# Altium footprint library Inductor_THT.PcbLib: 269 footprints (part 4 of 17)
Each footprint in its own frame and in the unit in brackets; x right, y up, seen from the top. Pads: shape width x height; smd on the part's side, far side on the other; paste and mask are expansions set on the pad; w line width, h text height; cw(c..) or ccw(c..) is an arc to the next point about the centre after c.
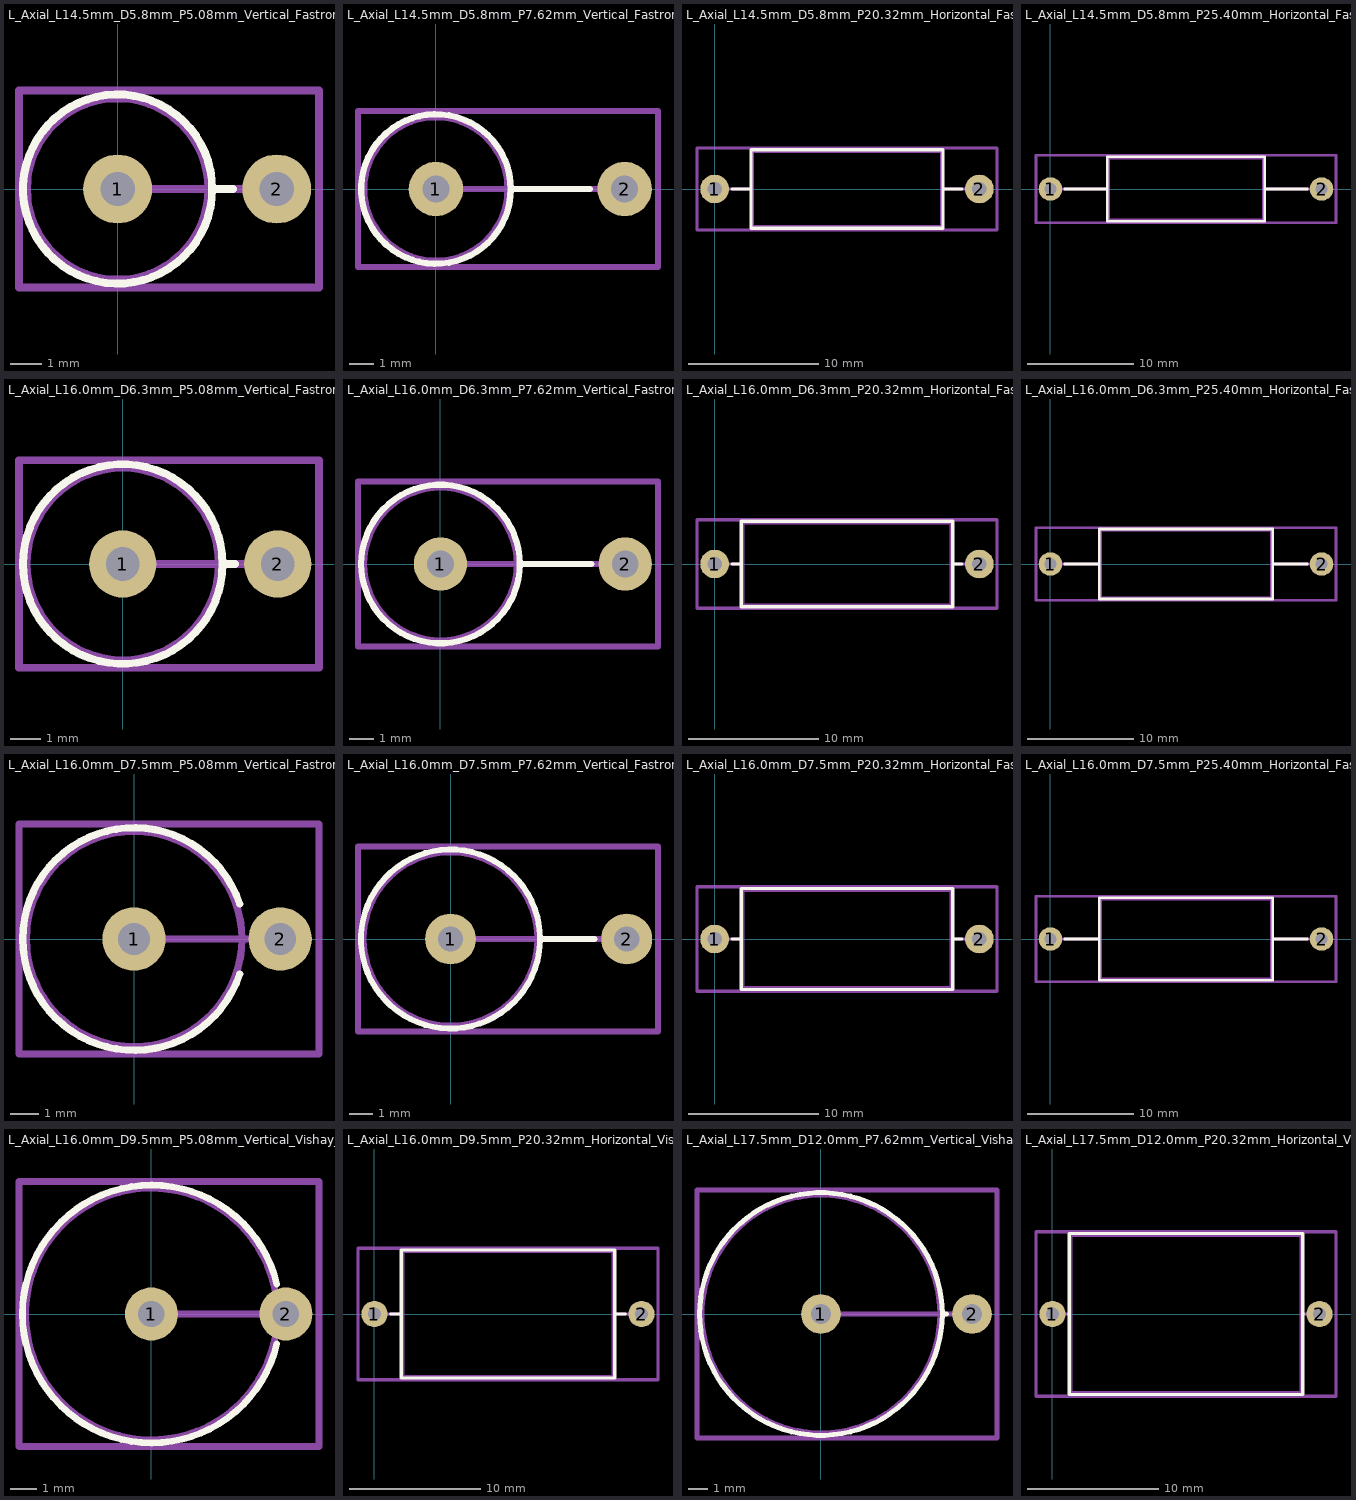
[diagram p3: the footprints below, top view; thin cyan lines are the x and y axes]

## L_Axial_L14.5mm_D5.8mm_P5.08mm_Vertical_Fastron_HBCC [mm]
pads (2):
  round 2.2 hole 1.1: 1(0,0) 2(5.08,0)
F.SilkS:
  circle w0.254: c0,0 r3.02
  lines w0.254: 3.02,0 3.68,0
Top Assembly:
  circle w0.254: c0,0 r2.9
  lines w0.254: 0,0 5.08,0
  text "'.Designator'" at -4.047,0.76 h1
Top Courtyard:
  lines w0.254: -3.15,-3.15 6.43,-3.15 6.43,3.15 -3.15,3.15 -3.15,-3.15
Top Designator:
  text ".Designator" at -6.437,-0.508 h1.52
3D body "L_Axial_L14.5mm_D5.8mm_P5.08mm_Vertical_Fastron_HBCC.step": height 17.4, standoff -3, extent -2.9,-2.897 5.477,2.897

## L_Axial_L14.5mm_D5.8mm_P7.62mm_Vertical_Fastron_HBCC [mm]
pads (2):
  round 2.2 hole 1.1: 1(0,0) 2(7.62,0)
F.SilkS:
  circle w0.254: c0,0 r3.02
  lines w0.254: 3.02,0 6.22,0
Top Assembly:
  circle w0.254: c0,0 r2.9
  lines w0.254: 0,0 7.62,0
  text "'.Designator'" at -4.047,0.76 h1
Top Courtyard:
  lines w0.254: -3.15,-3.15 8.97,-3.15 8.97,3.15 -3.15,3.15 -3.15,-3.15
Top Designator:
  text ".Designator" at -5.167,-0.508 h1.52
3D body "L_Axial_L14.5mm_D5.8mm_P7.62mm_Vertical_Fastron_HBCC.step": height 17.4, standoff -3, extent -2.9,-2.897 8.017,2.897

## L_Axial_L14.5mm_D5.8mm_P20.32mm_Horizontal_Fastron_HBCC [mm]
pads (2):
  round 2.2 hole 1.1: 1(0,0) 2(20.32,0)
F.SilkS:
  lines w0.254: 1.34,0 2.79,0 ; 17.53,0 18.98,0 ; 2.79,-3.02 17.53,-3.02 17.53,3.02 2.79,3.02 2.79,-3.02
Top Assembly:
  lines w0.254: 0,0 2.91,0 ; 17.41,0 20.32,0 ; 2.91,-2.9 17.41,-2.9 17.41,2.9 2.91,2.9 2.91,-2.9
  text "'.Designator'" at 6.113,-0.84 h1
Top Courtyard:
  lines w0.254: -1.35,-3.15 21.67,-3.15 21.67,3.15 -1.35,3.15 -1.35,-3.15
Top Designator:
  text ".Designator" at 2.542,-0.508 h1.52
3D body "L_Axial_L14.5mm_D5.8mm_P20.32mm_Horizontal_Fastron_HBCC.step": height 5.9, standoff -3, extent -0.397,-2.897 20.717,2.897

## L_Axial_L14.5mm_D5.8mm_P25.40mm_Horizontal_Fastron_HBCC [mm]
pads (2):
  round 2.2 hole 1.1: 1(0,0) 2(25.4,0)
F.SilkS:
  lines w0.254: 1.34,0 5.33,0 ; 20.07,0 24.06,0 ; 5.33,-3.02 20.07,-3.02 20.07,3.02 5.33,3.02 5.33,-3.02
Top Assembly:
  lines w0.254: 0,0 5.45,0 ; 19.95,0 25.4,0 ; 5.45,-2.9 19.95,-2.9 19.95,2.9 5.45,2.9 5.45,-2.9
  text "'.Designator'" at 8.653,-0.84 h1
Top Courtyard:
  lines w0.254: -1.35,-3.15 26.75,-3.15 26.75,3.15 -1.35,3.15 -1.35,-3.15
Top Designator:
  text ".Designator" at 5.082,-0.508 h1.52
3D body "L_Axial_L14.5mm_D5.8mm_P25.40mm_Horizontal_Fastron_HBCC.step": height 5.9, standoff -3, extent -0.397,-2.9 25.797,2.9

## L_Axial_L16.0mm_D6.3mm_P5.08mm_Vertical_Fastron_VHBCC [mm]
pads (2):
  round 2.2 hole 1.1: 1(0,0) 2(5.08,0)
F.SilkS:
  circle w0.254: c0,0 r3.27
  lines w0.254: 3.27,0 3.68,0
Top Assembly:
  circle w0.254: c0,0 r3.15
  lines w0.254: 0,0 5.08,0
  text "'.Designator'" at -4.047,0.76 h1
Top Courtyard:
  lines w0.254: -3.4,-3.4 6.43,-3.4 6.43,3.4 -3.4,3.4 -3.4,-3.4
Top Designator:
  text ".Designator" at -6.437,-0.508 h1.52
3D body "L_Axial_L16.0mm_D6.3mm_P5.08mm_Vertical_Fastron_VHBCC.step": height 18.9, standoff -3, extent -3.15,-3.147 5.477,3.147

## L_Axial_L16.0mm_D6.3mm_P7.62mm_Vertical_Fastron_VHBCC [mm]
pads (2):
  round 2.2 hole 1.1: 1(0,0) 2(7.62,0)
F.SilkS:
  circle w0.254: c0,0 r3.27
  lines w0.254: 3.27,0 6.22,0
Top Assembly:
  circle w0.254: c0,0 r3.15
  lines w0.254: 0,0 7.62,0
  text "'.Designator'" at -4.047,0.76 h1
Top Courtyard:
  lines w0.254: -3.4,-3.4 8.97,-3.4 8.97,3.4 -3.4,3.4 -3.4,-3.4
Top Designator:
  text ".Designator" at -5.167,-0.508 h1.52
3D body "L_Axial_L16.0mm_D6.3mm_P7.62mm_Vertical_Fastron_VHBCC.step": height 18.9, standoff -3, extent -3.15,-3.147 8.017,3.147

## L_Axial_L16.0mm_D6.3mm_P20.32mm_Horizontal_Fastron_VHBCC [mm]
pads (2):
  round 2.2 hole 1.1: 1(0,0) 2(20.32,0)
F.SilkS:
  lines w0.254: 1.34,0 2.04,0 ; 18.28,0 18.98,0 ; 2.04,-3.27 18.28,-3.27 18.28,3.27 2.04,3.27 2.04,-3.27
Top Assembly:
  lines w0.254: 0,0 2.16,0 ; 18.16,0 20.32,0 ; 2.16,-3.15 18.16,-3.15 18.16,3.15 2.16,3.15 2.16,-3.15
  text "'.Designator'" at 6.113,-0.84 h1
Top Courtyard:
  lines w0.254: -1.35,-3.4 21.67,-3.4 21.67,3.4 -1.35,3.4 -1.35,-3.4
Top Designator:
  text ".Designator" at 2.542,-0.508 h1.52
3D body "L_Axial_L16.0mm_D6.3mm_P20.32mm_Horizontal_Fastron_VHBCC.step": height 6.4, standoff -3, extent -0.397,-3.147 20.717,3.147

## L_Axial_L16.0mm_D6.3mm_P25.40mm_Horizontal_Fastron_VHBCC [mm]
pads (2):
  round 2.2 hole 1.1: 1(0,0) 2(25.4,0)
F.SilkS:
  lines w0.254: 1.34,0 4.58,0 ; 20.82,0 24.06,0 ; 4.58,-3.27 20.82,-3.27 20.82,3.27 4.58,3.27 4.58,-3.27
Top Assembly:
  lines w0.254: 0,0 4.7,0 ; 20.7,0 25.4,0 ; 4.7,-3.15 20.7,-3.15 20.7,3.15 4.7,3.15 4.7,-3.15
  text "'.Designator'" at 8.653,-0.84 h1
Top Courtyard:
  lines w0.254: -1.35,-3.4 26.75,-3.4 26.75,3.4 -1.35,3.4 -1.35,-3.4
Top Designator:
  text ".Designator" at 5.082,-0.508 h1.52
3D body "L_Axial_L16.0mm_D7.5mm_P25.40mm_Horizontal_Fastron_XHBCC.step": height 7.6, standoff -3, extent -0.397,-3.747 25.797,3.747

## L_Axial_L16.0mm_D7.5mm_P5.08mm_Vertical_Fastron_XHBCC [mm]
pads (2):
  round 2.2 hole 1.1: 1(0,0) 2(5.08,0)
F.SilkS:
  lines w0.254: 3.673,-1.22 cw(c0,0) 3.673,1.22
Top Assembly:
  circle w0.254: c0,0 r3.75
  lines w0.254: 0,0 5.08,0
  text "'.Designator'" at -4.047,0.76 h1
Top Courtyard:
  lines w0.254: -4,-4 6.43,-4 6.43,4 -4,4 -4,-4
Top Designator:
  text ".Designator" at -6.437,-0.508 h1.52
3D body "L_Axial_L16.0mm_D7.5mm_P5.08mm_Vertical_Fastron_XHBCC.step": height 18.9, standoff -3, extent -3.75,-3.75 5.477,3.75

## L_Axial_L16.0mm_D7.5mm_P7.62mm_Vertical_Fastron_XHBCC [mm]
pads (2):
  round 2.2 hole 1.1: 1(0,0) 2(7.62,0)
F.SilkS:
  circle w0.254: c0,0 r3.87
  lines w0.254: 3.87,0 6.22,0
Top Assembly:
  circle w0.254: c0,0 r3.75
  lines w0.254: 0,0 7.62,0
  text "'.Designator'" at -4.047,0.76 h1
Top Courtyard:
  lines w0.254: -4,-4 8.97,-4 8.97,4 -4,4 -4,-4
Top Designator:
  text ".Designator" at -5.167,-0.508 h1.52
3D body "L_Axial_L16.0mm_D7.5mm_P7.62mm_Vertical_Fastron_XHBCC.step": height 18.9, standoff -3, extent -3.75,-3.75 8.017,3.75

## L_Axial_L16.0mm_D7.5mm_P20.32mm_Horizontal_Fastron_XHBCC [mm]
pads (2):
  round 2.2 hole 1.1: 1(0,0) 2(20.32,0)
F.SilkS:
  lines w0.254: 1.34,0 2.04,0 ; 18.28,0 18.98,0 ; 2.04,-3.87 18.28,-3.87 18.28,3.87 2.04,3.87 2.04,-3.87
Top Assembly:
  lines w0.254: 0,0 2.16,0 ; 18.16,0 20.32,0 ; 2.16,-3.75 18.16,-3.75 18.16,3.75 2.16,3.75 2.16,-3.75
  text "'.Designator'" at 6.113,-0.84 h1
Top Courtyard:
  lines w0.254: -1.35,-4 21.67,-4 21.67,4 -1.35,4 -1.35,-4
Top Designator:
  text ".Designator" at 2.542,-0.508 h1.52
3D body "L_Axial_L16.0mm_D7.5mm_P20.32mm_Horizontal_Fastron_XHBCC.step": height 7.6, standoff -3, extent -0.397,-3.75 20.717,3.75

## L_Axial_L16.0mm_D7.5mm_P25.40mm_Horizontal_Fastron_XHBCC [mm]
pads (2):
  round 2.2 hole 1.1: 1(0,0) 2(25.4,0)
F.SilkS:
  lines w0.254: 1.34,0 4.58,0 ; 20.82,0 24.06,0 ; 4.58,-3.87 20.82,-3.87 20.82,3.87 4.58,3.87 4.58,-3.87
Top Assembly:
  lines w0.254: 0,0 4.7,0 ; 20.7,0 25.4,0 ; 4.7,-3.75 20.7,-3.75 20.7,3.75 4.7,3.75 4.7,-3.75
  text "'.Designator'" at 8.653,-0.84 h1
Top Courtyard:
  lines w0.254: -1.35,-4 26.75,-4 26.75,4 -1.35,4 -1.35,-4
Top Designator:
  text ".Designator" at 5.082,-0.508 h1.52
3D body "L_Axial_L16.0mm_D7.5mm_P25.40mm_Horizontal_Fastron_XHBCC.step": height 7.6, standoff -3, extent -0.397,-3.747 25.797,3.747

## L_Axial_L16.0mm_D9.5mm_P5.08mm_Vertical_Vishay_IM-10-37 [mm]
pads (2):
  round 2 hole 1: 1(0,0) 2(5.08,0)
F.SilkS:
  lines w0.254: 4.739,-1.12 cw(c0,0) 4.739,1.12
Top Assembly:
  circle w0.254: c0,0 r4.75
  lines w0.254: 0,0 5.08,0
  text "'.Designator'" at -4.047,0.66 h1
Top Courtyard:
  lines w0.254: -5,-5 6.33,-5 6.33,5 -5,5 -5,-5
Top Designator:
  text ".Designator" at -6.953,-0.508 h1.52
3D body "L_Axial_L16.0mm_D9.5mm_P5.08mm_Vertical_Vishay_IM-10-37.step": height 18.55, standoff -3, extent -4.75,-4.75 5.427,4.75

## L_Axial_L16.0mm_D9.5mm_P20.32mm_Horizontal_Vishay_IM-10-37 [mm]
pads (2):
  round 2 hole 1: 1(0,0) 2(20.32,0)
F.SilkS:
  lines w0.254: 1.24,0 2.04,0 ; 18.28,0 19.08,0 ; 2.04,-4.87 18.28,-4.87 18.28,4.87 2.04,4.87 2.04,-4.87
Top Assembly:
  lines w0.254: 0,0 2.16,0 ; 18.16,0 20.32,0 ; 2.16,-4.75 18.16,-4.75 18.16,4.75 2.16,4.75 2.16,-4.75
  text "'.Designator'" at 6.113,-0.84 h1
Top Courtyard:
  lines w0.254: -1.25,-5 21.57,-5 21.57,5 -1.25,5 -1.25,-5
Top Designator:
  text ".Designator" at 2.542,-0.508 h1.52
3D body "L_Axial_L16.0mm_D9.5mm_P20.32mm_Horizontal_Vishay_IM-10-37.step": height 9.6, standoff -3, extent -0.347,-4.747 20.667,4.747

## L_Axial_L17.5mm_D12.0mm_P7.62mm_Vertical_Vishay_IM-10-46 [mm]
pads (2):
  round 2 hole 1: 1(0,0) 2(7.62,0)
F.SilkS:
  circle w0.254: c0,0 r6.12
  lines w0.254: 6.12,0 6.32,0
Top Assembly:
  circle w0.254: c0,0 r6
  lines w0.254: 0,0 7.62,0
  text "'.Designator'" at -4.047,0.66 h1
Top Courtyard:
  lines w0.254: -6.25,-6.25 8.88,-6.25 8.88,6.25 -6.25,6.25 -6.25,-6.25
Top Designator:
  text ".Designator" at -6.303,-0.508 h1.52
3D body "L_Axial_L17.5mm_D12.0mm_P7.62mm_Vertical_Vishay_IM-10-46.step": height 20.05, standoff -3, extent -6,-6 7.967,6

## L_Axial_L17.5mm_D12.0mm_P20.32mm_Horizontal_Vishay_IM-10-46 [mm]
pads (2):
  round 2 hole 1: 1(0,0) 2(20.32,0)
F.SilkS:
  lines w0.254: 1.24,0 1.29,0 ; 19.03,0 19.08,0 ; 1.29,-6.12 19.03,-6.12 19.03,6.12 1.29,6.12 1.29,-6.12
Top Assembly:
  lines w0.254: 0,0 1.41,0 ; 18.91,0 20.32,0 ; 1.41,-6 18.91,-6 18.91,6 1.41,6 1.41,-6
  text "'.Designator'" at 6.113,-0.84 h1
Top Courtyard:
  lines w0.254: -1.25,-6.25 21.57,-6.25 21.57,6.25 -1.25,6.25 -1.25,-6.25
Top Designator:
  text ".Designator" at 2.542,-0.508 h1.52